# Altium footprint library con-phoenix-508.PCBLIB: 90 footprints (part 2 of 6)
Each footprint in its own frame and in the unit in brackets; x right, y up, seen from the top. Pads: shape width x height; smd on the part's side, far side on the other; paste and mask are expansions set on the pad; w line width, h text height; cw(c..) or ccw(c..) is an arc to the next point about the centre after c.
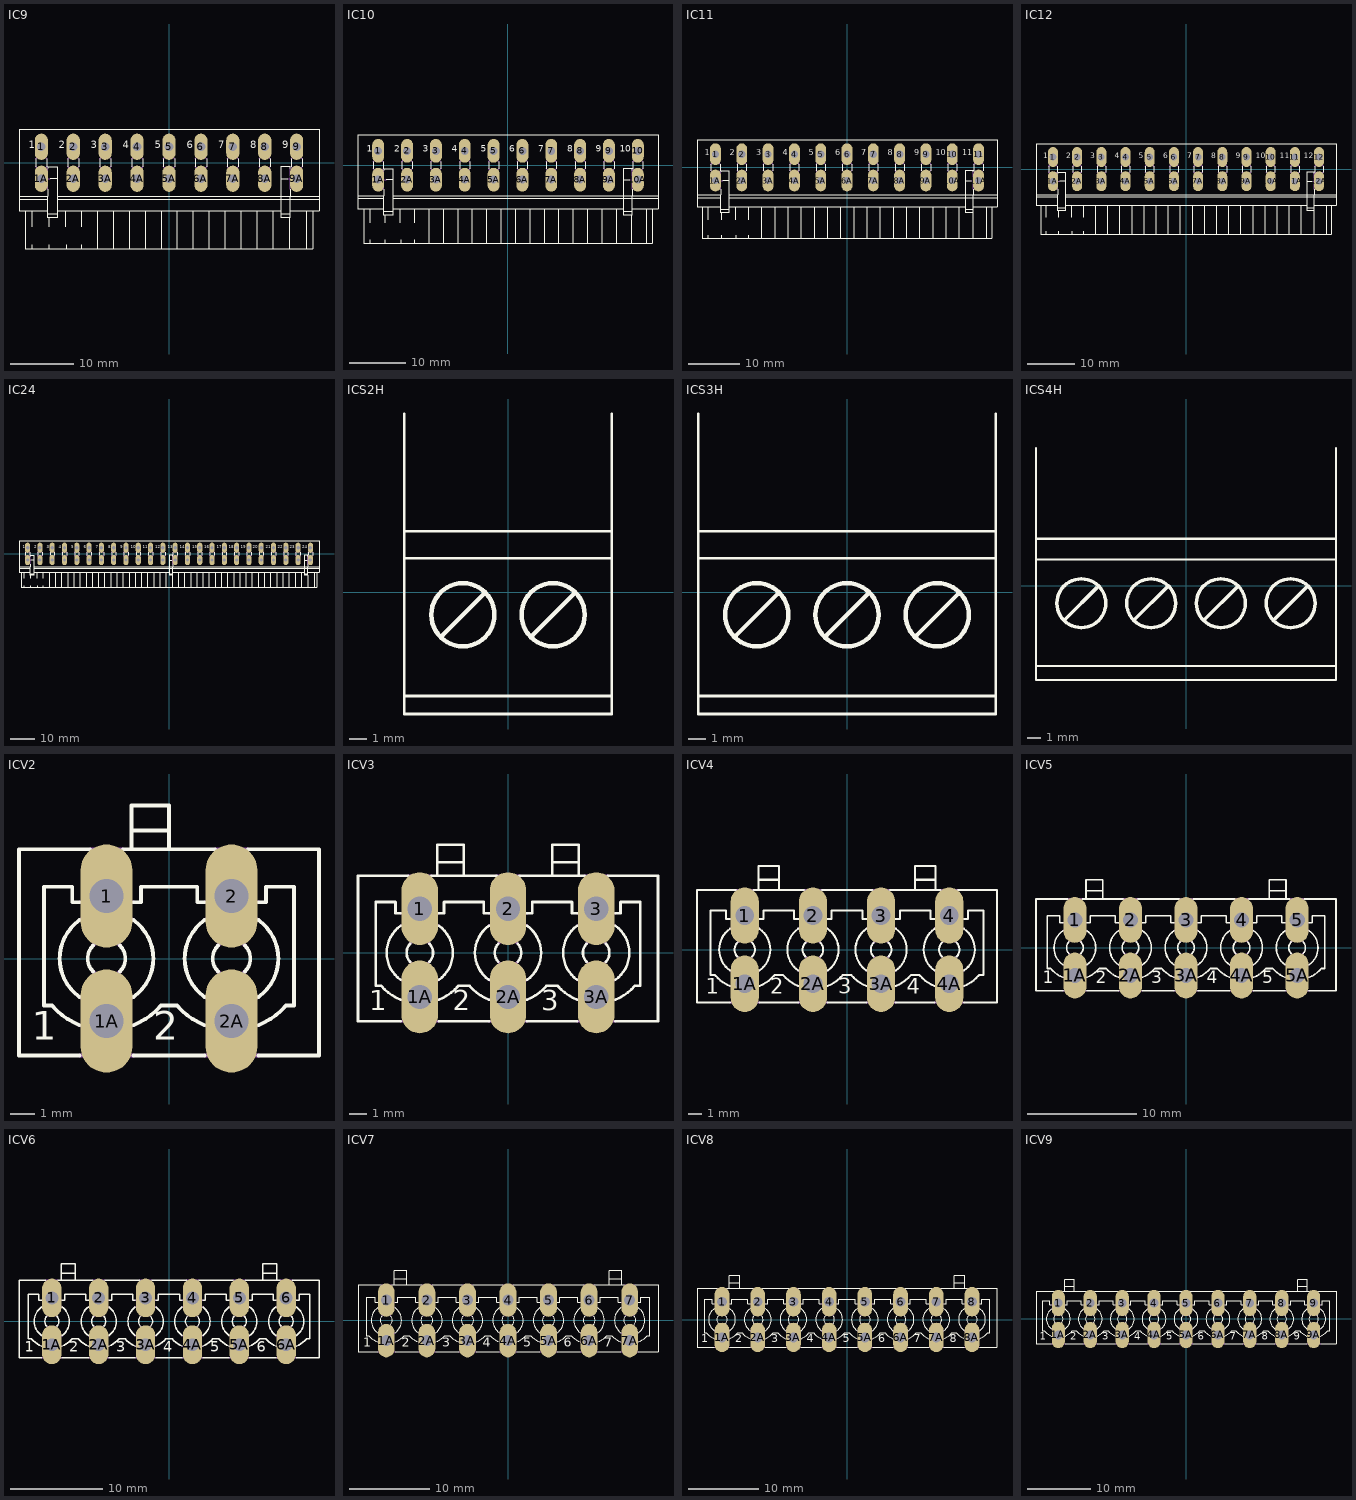
[diagram p1: the footprints below, top view; thin cyan lines are the x and y axes]

## IC9 [mil]
pads (18):
  oval 82.5x165 hole 55: 1(-800,100) 1A(-800,-100) 2(-600,100) 2A(-600,-100) 3(-400,100) 3A(-400,-100) 4(-200,100) 4A(-200,-100) 5(0,100) 5A(0,-100) 6(200,100) 6A(200,-100) 7(400,100) 7A(400,-100) 8(600,100) 8A(600,-100) 9(800,100) 9A(800,-100)
Top Overlay:
  lines w6: -860,-515 -860,-540 ; -860,-400 -860,-300 ; -835,-25 -835,25 ; -765,-25 -765,25 ; -760,-165 -760,-210 ; -760,-35 -760,-25 -700,-25 -700,-100 ; -755,-515 -755,-540 ; -755,-400 -755,-345 ; -745,-100 -700,-100 ; -650,-400 -650,-300 ; -645,-515 -645,-540 ; -635,-25 -635,25 ; -565,-25 -565,25 ; -550,-515 -550,-540 ; -550,-400 -550,-300 ; -435,-25 -435,25 ; -365,-25 -365,25 ; -235,-25 -235,25 ; -165,-25 -165,25 ; -35,-25 -35,25 ; 35,-25 35,25 ; 165,-25 165,25 ; 235,-25 235,25 ; 365,-25 365,25 ; 435,-25 435,25 ; 565,-25 565,25 ; 635,-25 635,25 ; 745,-100 700,-100 ; 760,-165 760,-210 ; 760,-35 760,-25 700,-25 700,-100 ; 765,-25 765,25 ; 835,-25 835,25 ; -940,-230 -940,-210 ; -940,-230 -760,-230 ; -940,-230 -940,-300 -900,-300 ; -940,-210 -940,211 940,211 940,-210 ; -940,-210 -760,-210 ; -900,-300 -860,-300 ; -900,-300 -900,-540 -860,-540 ; -860,-540 -755,-540 ; -860,-300 -760,-300 ; -760,-320 -760,-345 -755,-345 ; -760,-320 -700,-320 ; -760,-320 -760,-300 ; -760,-300 -760,-230 ; -760,-230 -760,-210 ; -755,-540 -645,-540 ; -755,-345 -700,-345 -700,-320 ; -700,-320 -700,-300 ; -700,-300 -700,-230 ; -700,-300 -650,-300 ; -700,-230 -700,-210 ; -700,-230 700,-230 ; -700,-210 -700,-100 ; -700,-210 700,-210 ; -650,-300 -550,-300 ; -645,-540 -550,-540 ; -550,-540 -450,-540 ; -550,-300 -450,-300 ; -450,-540 -350,-540 ; -450,-540 -450,-300 ; -450,-300 -350,-300 ; -350,-540 -250,-540 ; -350,-540 -350,-300 ; -350,-300 -250,-300 ; -250,-540 -150,-540 ; -250,-540 -250,-300 ; -250,-300 -150,-300 ; -150,-540 -50,-540 ; -150,-540 -150,-300 ; -150,-300 -50,-300 ; -50,-540 50,-540 ; -50,-540 -50,-300 ; -50,-300 50,-300 ; 50,-540 150,-540 ; 50,-540 50,-300 ; 50,-300 150,-300 ; 150,-540 250,-540 ; 150,-540 150,-300 ; 150,-300 250,-300 ; 250,-540 350,-540 ; 250,-540 250,-300 ; 250,-300 350,-300 ; 350,-540 450,-540 ; 350,-540 350,-300 ; 350,-300 450,-300 ; 450,-540 550,-540 ; 450,-540 450,-300 ; 450,-300 550,-300 ; 550,-540 650,-540 ; 550,-540 550,-300 ; 550,-300 650,-300 ; 650,-540 755,-540 ; 650,-540 650,-300 ; 650,-300 700,-300 ; 700,-320 700,-300 ; 700,-320 760,-320 ; 700,-320 700,-345 755,-345 ; 700,-300 700,-230 ; 700,-230 760,-230 ; 700,-230 700,-210 ; 700,-210 760,-210 ; 700,-210 700,-100 ; 755,-540 860,-540 ; 755,-540 755,-345 ; 755,-345 760,-345 760,-320 ; 760,-320 760,-300 ; 760,-300 860,-300 ; 760,-300 760,-230 ; 760,-230 940,-230 ; 760,-230 760,-210 ; 760,-210 940,-210 ; 860,-540 900,-540 900,-300 ; 860,-540 860,-300 ; 860,-300 900,-300 ; 900,-300 940,-300 940,-230 ; 940,-230 940,-210
  text "3" at -490,75 h77.5
  text "1" at -880,75 h77.5
  text "2" at -690,75 h77.5
  text "4" at -290,75 h77.5
  text "5" at -90,75 h77.5
  text "6" at 110,75 h77.5
  text "7" at 310,75 h77.5
  text "8" at 510,75 h77.5
  text "9" at 710,75 h77.5
Mechanical 16:
  lines w6: -835,-25 -825,-35 -775,-35 -765,-25 ; -835,25 -825,35 -775,35 -765,25 ; -760,-165 -760,-100 ; -760,-35 -760,-100 ; -745,-100 -760,-100 ; -635,-25 -625,-35 -575,-35 -565,-25 ; -635,25 -625,35 -575,35 -565,25 ; -435,-25 -425,-35 -375,-35 -365,-25 ; -435,25 -425,35 -375,35 -365,25 ; -235,-25 -225,-35 -175,-35 -165,-25 ; -235,25 -225,35 -175,35 -165,25 ; -35,-25 -25,-35 25,-35 35,-25 ; -35,25 -25,35 25,35 35,25 ; 165,-25 175,-35 225,-35 235,-25 ; 165,25 175,35 225,35 235,25 ; 365,-25 375,-35 425,-35 435,-25 ; 365,25 375,35 425,35 435,25 ; 565,-25 575,-35 625,-35 635,-25 ; 565,25 575,35 625,35 635,25 ; 745,-100 760,-100 ; 760,-165 760,-100 ; 760,-35 760,-100 ; 765,-25 775,-35 825,-35 835,-25 ; 765,25 775,35 825,35 835,25

## IC10 [mil]
pads (20):
  oval 82.5x165 hole 55: 1(-900,100) 1A(-900,-100) 2(-700,100) 2A(-700,-100) 3(-500,100) 3A(-500,-100) 4(-300,100) 4A(-300,-100) 5(-100,100) 5A(-100,-100) 6(100,100) 6A(100,-100) 7(300,100) 7A(300,-100) 8(500,100) 8A(500,-100) 9(700,100) 9A(700,-100) 10(900,100) 10A(900,-100)
Top Overlay:
  lines w6: -960,-515 -960,-540 ; -960,-400 -960,-300 ; -935,-25 -935,25 ; -865,-25 -865,25 ; -860,-165 -860,-210 ; -860,-35 -860,-25 -800,-25 -800,-100 ; -855,-515 -855,-540 ; -855,-400 -855,-345 ; -845,-100 -800,-100 ; -750,-400 -750,-300 ; -745,-515 -745,-540 ; -735,-25 -735,25 ; -665,-25 -665,25 ; -650,-515 -650,-540 ; -650,-400 -650,-300 ; -535,-25 -535,25 ; -465,-25 -465,25 ; -335,-25 -335,25 ; -265,-25 -265,25 ; -135,-25 -135,25 ; -65,-25 -65,25 ; 65,-25 65,25 ; 135,-25 135,25 ; 265,-25 265,25 ; 335,-25 335,25 ; 465,-25 465,25 ; 535,-25 535,25 ; 665,-25 665,25 ; 735,-25 735,25 ; 845,-100 800,-100 ; 860,-165 860,-210 ; 860,-35 860,-25 800,-25 800,-100 ; 865,-25 865,25 ; 935,-25 935,25 ; -1040,-230 -1040,-210 ; -1040,-230 -860,-230 ; -1040,-230 -1040,-300 -1000,-300 ; -1040,-210 -1040,211 1040,211 1040,-210 ; -1040,-210 -860,-210 ; -1000,-300 -960,-300 ; -1000,-300 -1000,-540 -960,-540 ; -960,-540 -855,-540 ; -960,-300 -860,-300 ; -860,-320 -860,-345 -855,-345 ; -860,-320 -800,-320 ; -860,-320 -860,-300 ; -860,-300 -860,-230 ; -860,-230 -860,-210 ; -855,-540 -745,-540 ; -855,-345 -800,-345 -800,-320 ; -800,-320 -800,-300 ; -800,-300 -800,-230 ; -800,-300 -750,-300 ; -800,-230 -800,-210 ; -800,-230 800,-230 ; -800,-210 -800,-100 ; -800,-210 800,-210 ; -750,-300 -650,-300 ; -745,-540 -650,-540 ; -650,-540 -550,-540 ; -650,-300 -550,-300 ; -550,-540 -450,-540 ; -550,-540 -550,-300 ; -550,-300 -450,-300 ; -450,-540 -350,-540 ; -450,-540 -450,-300 ; -450,-300 -350,-300 ; -350,-540 -250,-540 ; -350,-540 -350,-300 ; -350,-300 -250,-300 ; -250,-540 -150,-540 ; -250,-540 -250,-300 ; -250,-300 -150,-300 ; -150,-540 -50,-540 ; -150,-540 -150,-300 ; -150,-300 -50,-300 ; -50,-540 50,-540 ; -50,-540 -50,-300 ; -50,-300 50,-300 ; 50,-540 150,-540 ; 50,-540 50,-300 ; 50,-300 150,-300 ; 150,-540 250,-540 ; 150,-540 150,-300 ; 150,-300 250,-300 ; 250,-540 350,-540 ; 250,-540 250,-300 ; 250,-300 350,-300 ; 350,-540 450,-540 ; 350,-540 350,-300 ; 350,-300 450,-300 ; 450,-540 550,-540 ; 450,-540 450,-300 ; 450,-300 550,-300 ; 550,-540 650,-540 ; 550,-540 550,-300 ; 550,-300 650,-300 ; 650,-540 750,-540 ; 650,-540 650,-300 ; 650,-300 750,-300 ; 750,-540 855,-540 ; 750,-540 750,-300 ; 750,-300 800,-300 ; 800,-320 800,-300 ; 800,-320 860,-320 ; 800,-320 800,-345 855,-345 ; 800,-300 800,-230 ; 800,-230 860,-230 ; 800,-230 800,-210 ; 800,-210 860,-210 ; 800,-210 800,-100 ; 855,-540 960,-540 ; 855,-540 855,-345 ; 855,-345 860,-345 860,-320 ; 860,-320 860,-300 ; 860,-300 960,-300 ; 860,-300 860,-230 ; 860,-230 1040,-230 ; 860,-230 860,-210 ; 860,-210 1040,-210 ; 960,-540 1000,-540 1000,-300 ; 960,-540 960,-300 ; 960,-300 1000,-300 ; 1000,-300 1040,-300 1040,-230 ; 1040,-230 1040,-210
  text "3" at -590,75 h77.5
  text "1" at -980,75 h77.5
  text "2" at -790,75 h77.5
  text "4" at -390,75 h77.5
  text "5" at -190,75 h77.5
  text "6" at 10,75 h77.5
  text "7" at 210,75 h77.5
  text "8" at 410,75 h77.5
  text "9" at 610,75 h77.5
  text "10" at 775,75 h77.5
Mechanical 16:
  lines w6: -935,-25 -925,-35 -875,-35 -865,-25 ; -935,25 -925,35 -875,35 -865,25 ; -860,-165 -860,-100 ; -860,-35 -860,-100 ; -845,-100 -860,-100 ; -735,-25 -725,-35 -675,-35 -665,-25 ; -735,25 -725,35 -675,35 -665,25 ; -535,-25 -525,-35 -475,-35 -465,-25 ; -535,25 -525,35 -475,35 -465,25 ; -335,-25 -325,-35 -275,-35 -265,-25 ; -335,25 -325,35 -275,35 -265,25 ; -135,-25 -125,-35 -75,-35 -65,-25 ; -135,25 -125,35 -75,35 -65,25 ; 65,-25 75,-35 125,-35 135,-25 ; 65,25 75,35 125,35 135,25 ; 265,-25 275,-35 325,-35 335,-25 ; 265,25 275,35 325,35 335,25 ; 465,-25 475,-35 525,-35 535,-25 ; 465,25 475,35 525,35 535,25 ; 665,-25 675,-35 725,-35 735,-25 ; 665,25 675,35 725,35 735,25 ; 845,-100 860,-100 ; 860,-165 860,-100 ; 860,-35 860,-100 ; 865,-25 875,-35 925,-35 935,-25 ; 865,25 875,35 925,35 935,25

## IC11 [mil]
pads (22):
  oval 82.5x165 hole 55: 1(-1000,100) 1A(-1000,-100) 2(-800,100) 2A(-800,-100) 3(-600,100) 3A(-600,-100) 4(-400,100) 4A(-400,-100) 5(-200,100) 5A(-200,-100) 6(0,100) 6A(0,-100) 7(200,100) 7A(200,-100) 8(400,100) 8A(400,-100) 9(600,100) 9A(600,-100) 10(800,100) 10A(800,-100) 11(1000,100) 11A(1000,-100)
Top Overlay:
  lines w6: -1060,-515 -1060,-540 ; -1060,-400 -1060,-300 ; -1035,-25 -1035,25 ; -965,-25 -965,25 ; -960,-165 -960,-210 ; -960,-35 -960,-25 -900,-25 -900,-100 ; -955,-515 -955,-540 ; -955,-400 -955,-345 ; -945,-100 -900,-100 ; -850,-400 -850,-300 ; -845,-515 -845,-540 ; -835,-25 -835,25 ; -765,-25 -765,25 ; -750,-515 -750,-540 ; -750,-400 -750,-300 ; -635,-25 -635,25 ; -565,-25 -565,25 ; -435,-25 -435,25 ; -365,-25 -365,25 ; -235,-25 -235,25 ; -165,-25 -165,25 ; -35,-25 -35,25 ; 35,-25 35,25 ; 165,-25 165,25 ; 235,-25 235,25 ; 365,-25 365,25 ; 435,-25 435,25 ; 565,-25 565,25 ; 635,-25 635,25 ; 765,-25 765,25 ; 835,-25 835,25 ; 945,-100 900,-100 ; 960,-165 960,-210 ; 960,-35 960,-25 900,-25 900,-100 ; 965,-25 965,25 ; 1035,-25 1035,25 ; -1140,-230 -1140,-210 ; -1140,-230 -960,-230 ; -1140,-230 -1140,-300 -1100,-300 ; -1140,-210 -1140,211 1140,211 1140,-210 ; -1140,-210 -960,-210 ; -1100,-300 -1060,-300 ; -1100,-300 -1100,-540 -1060,-540 ; -1060,-540 -955,-540 ; -1060,-300 -960,-300 ; -960,-320 -960,-345 -955,-345 ; -960,-320 -900,-320 ; -960,-320 -960,-300 ; -960,-300 -960,-230 ; -960,-230 -960,-210 ; -955,-540 -845,-540 ; -955,-345 -900,-345 -900,-320 ; -900,-320 -900,-300 ; -900,-300 -900,-230 ; -900,-300 -850,-300 ; -900,-230 -900,-210 ; -900,-230 900,-230 ; -900,-210 -900,-100 ; -900,-210 900,-210 ; -850,-300 -750,-300 ; -845,-540 -750,-540 ; -750,-540 -650,-540 ; -750,-300 -650,-300 ; -650,-540 -550,-540 ; -650,-540 -650,-300 ; -650,-300 -550,-300 ; -550,-540 -450,-540 ; -550,-540 -550,-300 ; -550,-300 -450,-300 ; -450,-540 -350,-540 ; -450,-540 -450,-300 ; -450,-300 -350,-300 ; -350,-540 -250,-540 ; -350,-540 -350,-300 ; -350,-300 -250,-300 ; -250,-540 -150,-540 ; -250,-540 -250,-300 ; -250,-300 -150,-300 ; -150,-540 -50,-540 ; -150,-540 -150,-300 ; -150,-300 -50,-300 ; -50,-540 50,-540 ; -50,-540 -50,-300 ; -50,-300 50,-300 ; 50,-540 150,-540 ; 50,-540 50,-300 ; 50,-300 150,-300 ; 150,-540 250,-540 ; 150,-540 150,-300 ; 150,-300 250,-300 ; 250,-540 350,-540 ; 250,-540 250,-300 ; 250,-300 350,-300 ; 350,-540 450,-540 ; 350,-540 350,-300 ; 350,-300 450,-300 ; 450,-540 550,-540 ; 450,-540 450,-300 ; 450,-300 550,-300 ; 550,-540 650,-540 ; 550,-540 550,-300 ; 550,-300 650,-300 ; 650,-540 750,-540 ; 650,-540 650,-300 ; 650,-300 750,-300 ; 750,-540 850,-540 ; 750,-540 750,-300 ; 750,-300 850,-300 ; 850,-540 955,-540 ; 850,-540 850,-300 ; 850,-300 900,-300 ; 900,-320 900,-300 ; 900,-320 960,-320 ; 900,-320 900,-345 955,-345 ; 900,-300 900,-230 ; 900,-230 960,-230 ; 900,-230 900,-210 ; 900,-210 960,-210 ; 900,-210 900,-100 ; 955,-540 1060,-540 ; 955,-540 955,-345 ; 955,-345 960,-345 960,-320 ; 960,-320 960,-300 ; 960,-300 1060,-300 ; 960,-300 960,-230 ; 960,-230 1140,-230 ; 960,-230 960,-210 ; 960,-210 1140,-210 ; 1060,-540 1100,-540 1100,-300 ; 1060,-540 1060,-300 ; 1060,-300 1100,-300 ; 1100,-300 1140,-300 1140,-230 ; 1140,-230 1140,-210
  text "3" at -690,75 h77.5
  text "1" at -1080,75 h77.5
  text "2" at -890,75 h77.5
  text "4" at -490,75 h77.5
  text "5" at -290,75 h77.5
  text "6" at -90,75 h77.5
  text "7" at 110,75 h77.5
  text "8" at 310,75 h77.5
  text "9" at 510,75 h77.5
  text "10" at 675,75 h77.5
  text "11" at 875,75 h77.5
Mechanical 16:
  lines w6: -1035,-25 -1025,-35 -975,-35 -965,-25 ; -1035,25 -1025,35 -975,35 -965,25 ; -960,-165 -960,-100 ; -960,-35 -960,-100 ; -945,-100 -960,-100 ; -835,-25 -825,-35 -775,-35 -765,-25 ; -835,25 -825,35 -775,35 -765,25 ; -635,-25 -625,-35 -575,-35 -565,-25 ; -635,25 -625,35 -575,35 -565,25 ; -435,-25 -425,-35 -375,-35 -365,-25 ; -435,25 -425,35 -375,35 -365,25 ; -235,-25 -225,-35 -175,-35 -165,-25 ; -235,25 -225,35 -175,35 -165,25 ; -35,-25 -25,-35 25,-35 35,-25 ; -35,25 -25,35 25,35 35,25 ; 165,-25 175,-35 225,-35 235,-25 ; 165,25 175,35 225,35 235,25 ; 365,-25 375,-35 425,-35 435,-25 ; 365,25 375,35 425,35 435,25 ; 565,-25 575,-35 625,-35 635,-25 ; 565,25 575,35 625,35 635,25 ; 765,-25 775,-35 825,-35 835,-25 ; 765,25 775,35 825,35 835,25 ; 945,-100 960,-100 ; 960,-165 960,-100 ; 960,-35 960,-100 ; 965,-25 975,-35 1025,-35 1035,-25 ; 965,25 975,35 1025,35 1035,25

## IC12 [mil]
pads (24):
  oval 82.5x165 hole 55: 1(-1100,100) 1A(-1100,-100) 2(-900,100) 2A(-900,-100) 3(-700,100) 3A(-700,-100) 4(-500,100) 4A(-500,-100) 5(-300,100) 5A(-300,-100) 6(-100,100) 6A(-100,-100) 7(100,100) 7A(100,-100) 8(300,100) 8A(300,-100) 9(500,100) 9A(500,-100) 10(700,100) 10A(700,-100) 11(900,100) 11A(900,-100) 12(1100,100) 12A(1100,-100)
Top Overlay:
  drawing of 155 lines, arcs and shapes, not listed
  text "3" at -790,75 h77.5
  text "1" at -1180,75 h77.5
  text "2" at -990,75 h77.5
  text "4" at -590,75 h77.5
  text "5" at -390,75 h77.5
  text "6" at -190,75 h77.5
  text "7" at 10,75 h77.5
  text "8" at 210,75 h77.5
  text "9" at 410,75 h77.5
  text "10" at 575,75 h77.5
  text "11" at 775,75 h77.5
  text "12" at 975,75 h77.5
Mechanical 16:
  lines w6: -1135,-25 -1125,-35 -1075,-35 -1065,-25 ; -1135,25 -1125,35 -1075,35 -1065,25 ; -1060,-165 -1060,-100 ; -1060,-35 -1060,-100 ; -1045,-100 -1060,-100 ; -935,-25 -925,-35 -875,-35 -865,-25 ; -935,25 -925,35 -875,35 -865,25 ; -735,-25 -725,-35 -675,-35 -665,-25 ; -735,25 -725,35 -675,35 -665,25 ; -535,-25 -525,-35 -475,-35 -465,-25 ; -535,25 -525,35 -475,35 -465,25 ; -335,-25 -325,-35 -275,-35 -265,-25 ; -335,25 -325,35 -275,35 -265,25 ; -135,-25 -125,-35 -75,-35 -65,-25 ; -135,25 -125,35 -75,35 -65,25 ; 65,-25 75,-35 125,-35 135,-25 ; 65,25 75,35 125,35 135,25 ; 265,-25 275,-35 325,-35 335,-25 ; 265,25 275,35 325,35 335,25 ; 465,-25 475,-35 525,-35 535,-25 ; 465,25 475,35 525,35 535,25 ; 665,-25 675,-35 725,-35 735,-25 ; 665,25 675,35 725,35 735,25 ; 865,-25 875,-35 925,-35 935,-25 ; 865,25 875,35 925,35 935,25 ; 1045,-100 1060,-100 ; 1060,-165 1060,-100 ; 1060,-35 1060,-100 ; 1065,-25 1075,-35 1125,-35 1135,-25 ; 1065,25 1075,35 1125,35 1135,25

## IC24 [mil]
pads (48):
  oval 82.5x165 hole 55: 1(-2300,100) 1A(-2300,-100) 2(-2100,100) 2A(-2100,-100) 3(-1900,100) 3A(-1900,-100) 4(-1700,100) 4A(-1700,-100) 5(-1500,100) 5A(-1500,-100) 6(-1300,100) 6A(-1300,-100) 7(-1100,100) 7A(-1100,-100) 8(-900,100) 8A(-900,-100) 9(-700,100) 9A(-700,-100) 10(-500,100) 10A(-500,-100) 11(-300,100) 11A(-300,-100) 12(-100,100) 12A(-100,-100) 13(100,100) 13A(100,-100) 14(300,100) 14A(300,-100) 15(500,100) 15A(500,-100) 16(700,100) 16A(700,-100) 17(900,100) 17A(900,-100) 18(1100,100) 18A(1100,-100) 19(1300,100) 19A(1300,-100) 20(1500,100) 20A(1500,-100) 21(1700,100) 21A(1700,-100) 22(1900,100) 22A(1900,-100) 23(2100,100) 23A(2100,-100) 24(2300,100) 24A(2300,-100)
Top Overlay:
  drawing of 274 lines, arcs and shapes, not listed
  text "3" at -1990,75 h77.5
  text "1" at -2380,75 h77.5
  text "2" at -2190,75 h77.5
  text "4" at -1790,75 h77.5
  text "5" at -1590,75 h77.5
  text "6" at -1390,75 h77.5
  text "7" at -1190,75 h77.5
  text "8" at -990,75 h77.5
  text "9" at -790,75 h77.5
  text "10" at -625,75 h77.5
  text "11" at -425,75 h77.5
  text "12" at -225,75 h77.5
  text "24" at 2165,75 h77.5
  text "23" at 1965,75 h77.5
  text "22" at 1765,75 h77.5
  text "21" at 1575,75 h77.5
  text "20" at 1365,75 h77.5
  text "19" at 1170,75 h77.5
  text "18" at 970,75 h77.5
  text "17" at 775,75 h77.5
  text "16" at 575,75 h77.5
  text "15" at 375,75 h77.5
  text "13" at -20,75 h77.5
  text "14" at 175,75 h77.5
Mechanical 16:
  drawing of 153 lines, arcs and shapes, not listed

## ICS2H [mil]
Top Overlay:
  circle w10: c100,-50 r70
  circle w10: c-100,-50 r70
  lines w6: -230,395 -230,135 ; 230,395 230,135 ; -230,-230 -230,-270 230,-270 230,-230 ; -230,-230 230,-230 ; -230,-230 -230,75 ; -230,75 -230,135 ; -230,75 230,75 ; -230,135 230,135 ; 230,-230 230,75 ; 230,75 230,135
  lines w10: -145,-95 -55,-5 ; 55,-95 145,-5

## ICS3H [mil]
Top Overlay:
  circle w10: c0,-50 r70
  circle w10: c-200,-50 r70
  circle w10: c200,-50 r70
  lines w6: -330,395 -330,135 ; 330,395 330,135 ; -330,-230 -330,-270 330,-270 330,-230 ; -330,-230 330,-230 ; -330,-230 -330,75 ; -330,75 -330,135 ; -330,75 330,75 ; -330,135 330,135 ; 330,-230 330,75 ; 330,75 330,135
  lines w10: -245,-95 -155,-5 ; -45,-95 45,-5 ; 155,-95 245,-5

## ICS4H [mil]
Top Overlay:
  circle w10: c-100,-50 r70
  circle w10: c-300,-50 r70
  circle w10: c100,-50 r70
  circle w10: c300,-50 r70
  lines w6: -430,395 -430,135 ; 430,395 430,135 ; -430,-230 -430,-270 430,-270 430,-230 ; -430,-230 430,-230 ; -430,-230 -430,75 ; -430,75 -430,135 ; -430,75 430,75 ; -430,135 430,135 ; 430,-230 430,75 ; 430,75 430,135
  lines w10: -345,-95 -255,-5 ; -145,-95 -55,-5 ; 55,-95 145,-5 ; 255,-95 345,-5

## ICV2 [mil]
pads (4):
  oval 82.5x165 hole 55: 1(-100,100) 1A(-100,-100) 2(100,100) 2A(100,-100)
Top Overlay:
  lines w6: -143,-155 -240,-155 -240,175 -125.94,175 ; -142.98,-106.66 cw(c-99.99,0.02) -187.17,-75 -200,-75 -200,115 -155,115 -155,90 -143,90 ; -143,-61.45 cw(c-100,0) -143,61.45 ; -121.71,-20.71 cw(c-100,0) -121.71,20.71 ; -78.29,-20.71 ccw(c-100,0) -78.29,20.71 ; -74,175 -60,175 ; -57,-155 57,-155 ; -57,-106.66 ccw(c-99.99,0.01) -12.81,-75 ; -57,-61.45 ccw(c-100,0) -57,61.45 ; -57,90 -45,90 -45,115 45,115 45,90 57,90 ; -12.83,-75 12.83,-75 ccw(c99.99,0.02) 57.02,-106.65 ; 57,-61.45 cw(c100,0) 57,61.45 ; 74,175 0,175 ; 78.29,-20.71 cw(c100,0) 78.29,20.71 ; 121.71,-20.71 ccw(c100,0) 121.71,20.71 ; 126,175 240,175 240,-155 143,-155 ; 142.98,-106.66 ccw(c99.99,0.02) 187.17,-75 200,-75 200,115 155,115 155,90 143,90 ; 143,-61.45 ccw(c100,0) 143,61.45 ; -60,175 0,175 ; -60,175 -60,205 ; -60,205 -60,245 0,245 0,205 ; -60,205 0,205 ; 0,175 0,205
  text "1" at -220,-145 h77.5
  text "2" at -25,-145 h77.5
Mechanical 16:
  lines w6: -143,-155 -57,-155 ; -143,-106.66 ccw(c-100,0) -57,-106.66 ; -143,-61.45 ccw(c-100,0) -57,-61.45 ; -143,61.45 cw(c-100,0) -57,61.45 ; -143,90 -57,90 ; -126,175 -74,175 ; -121.71,-20.71 ccw(c-100,0) -78.29,-20.71 ; -121.71,20.71 cw(c-100,0) -78.29,20.71 ; 57,-155 143,-155 ; 57,-106.66 ccw(c100,0) 143,-106.66 ; 57,-61.45 ccw(c100,0) 143,-61.45 ; 57,61.45 cw(c100,0) 143,61.45 ; 57,90 143,90 ; 74,175 126,175 ; 78.29,-20.71 ccw(c100,0) 121.71,-20.71 ; 78.29,20.71 cw(c100,0) 121.71,20.71

## ICV3 [mil]
pads (6):
  oval 82.5x165 hole 55: 1(-200,100) 1A(-200,-100) 2(0,100) 2A(0,-100) 3(200,100) 3A(200,-100)
Top Overlay:
  lines w6: -243,-155 -340,-155 -340,175 -226,175 ; -242.98,-106.66 cw(c-199.99,0.02) -287.17,-75 -300,-75 -300,115 -255,115 -255,90 -243,90 ; -243,-61.45 cw(c-200,0) -243,61.45 ; -221.71,-20.71 cw(c-200,0) -221.71,20.71 ; -178.29,-20.71 ccw(c-200,0) -178.29,20.71 ; -174,175 -160,175 ; -157,-155 -43,-155 ; -157,-106.66 ccw(c-199.99,-0.01) -112.82,-75 ; -157,-61.45 ccw(c-200,0) -157,61.45 ; -157,90 -145,90 -145,115 -55,115 -55,90 -43,90 ; -112.83,-75 -87.17,-75 ccw(c0.01,0.02) -42.98,-106.66 ; -43,-61.45 cw(c0,0) -43,61.45 ; -26,175 -100,175 ; -21.71,-20.71 cw(c0,0) -21.71,20.71 ; 21.71,-20.71 ccw(c0,0) 21.71,20.71 ; 26,175 100,175 ; 43,-155 157,-155 ; 42.98,-106.66 ccw(c-0.01,0.02) 87.17,-75 112.83,-75 ccw(c199.99,0.02) 157.02,-106.65 ; 43,-61.45 ccw(c0,0) 43,61.45 ; 43,90 55,90 55,115 145,115 145,90 157,90 ; 157,-61.45 cw(c200,0) 157,61.45 ; 174,175 160,175 ; 178.29,-20.71 cw(c200,0) 178.29,20.71 ; 221.71,-20.71 ccw(c200,0) 221.71,20.71 ; 226,175 340,175 340,-155 243,-155 ; 242.98,-106.66 ccw(c199.99,0.02) 287.17,-75 300,-75 300,115 255,115 255,90 243,90 ; 243,-61.45 ccw(c200,0) 243,61.45 ; -160,175 -100,175 ; -160,175 -160,205 ; -160,205 -160,245 -100,245 -100,205 ; -160,205 -100,205 ; -100,175 -100,205 ; 100,175 160,175 ; 100,175 100,205 ; 100,205 100,245 160,245 160,205 ; 100,205 160,205 ; 160,175 160,205
  text "1" at -315,-145 h77.5
  text "2" at -125,-145 h77.5
  text "3" at 75,-145 h77.5
Mechanical 16:
  lines w6: -243,-155 -157,-155 ; -243,-106.66 ccw(c-200,0) -157,-106.66 ; -243,-61.45 ccw(c-200,0) -157,-61.45 ; -243,61.45 cw(c-200,0) -157,61.45 ; -243,90 -157,90 ; -226,175 -174,175 ; -221.71,-20.71 ccw(c-200,0) -178.29,-20.71 ; -221.71,20.71 cw(c-200,0) -178.29,20.71 ; -43,-155 43,-155 ; -43,-106.66 ccw(c0,0) 43,-106.66 ; -43,-61.45 ccw(c0,0) 43,-61.45 ; -43,61.45 cw(c0,0) 43,61.45 ; -43,90 43,90 ; -26,175 26,175 ; -21.71,-20.71 ccw(c0,0) 21.71,-20.71 ; -21.71,20.71 cw(c0,0) 21.71,20.71 ; 157,-155 243,-155 ; 157,-106.66 ccw(c200,0) 243,-106.66 ; 157,-61.45 ccw(c200,0) 243,-61.45 ; 157,61.45 cw(c200,0) 243,61.45 ; 157,90 243,90 ; 174,175 226,175 ; 178.29,-20.71 ccw(c200,0) 221.71,-20.71 ; 178.29,20.71 cw(c200,0) 221.71,20.71

## ICV4 [mil]
pads (8):
  oval 82.5x165 hole 55: 1(-300,100) 1A(-300,-100) 2(-100,100) 2A(-100,-100) 3(100,100) 3A(100,-100) 4(300,100) 4A(300,-100)
Top Overlay:
  lines w6: -343,-155 -440,-155 -440,175 -326,175 ; -342.98,-106.66 cw(c-299.99,0.02) -387.17,-75 -400,-75 -400,115 -355,115 -355,90 -343,90 ; -343,-61.45 cw(c-300,0) -343,61.45 ; -321.71,-20.71 cw(c-300,0) -321.71,20.71 ; -278.29,-20.71 ccw(c-300,0) -278.29,20.71 ; -274,175 -260,175 ; -257,-155 -143,-155 ; -257,-106.66 ccw(c-299.99,-0.01) -212.82,-75 ; -257,-61.45 ccw(c-300,0) -257,61.45 ; -257,90 -245,90 -245,115 -155,115 -155,90 -143,90 ; -212.83,-75 -187.17,-75 ccw(c-99.99,0.02) -142.98,-106.66 ; -143,-61.45 cw(c-100,0) -143,61.45 ; -126,175 -200,175 ; -121.71,-20.71 cw(c-100,0) -121.71,20.71 ; -78.29,-20.71 ccw(c-100,0) -78.29,20.71 ; -74,175 75,175 ; -57,-155 57,-155 ; -57,-106.66 ccw(c-99.99,0.01) -12.81,-75 ; -57,-61.45 ccw(c-100,0) -57,61.45 ; -57,90 -45,90 -45,115 45,115 45,90 57,90 ; -12.83,-75 12.83,-75 ccw(c99.99,0.02) 57.02,-106.65 ; 57,-61.45 cw(c100,0) 57,61.45 ; 78.29,-20.71 cw(c100,0) 78.29,20.71 ; 121.71,-20.71 ccw(c100,0) 121.71,20.71 ; 126,175 200,175 ; 143,-155 257,-155 ; 142.98,-106.66 ccw(c99.99,0.02) 187.17,-75 212.83,-75 ccw(c299.99,0.02) 257.02,-106.65 ; 143,-61.45 ccw(c100,0) 143,61.45 ; 143,90 155,90 155,115 245,115 245,90 257,90 ; 257,-61.45 cw(c300,0) 257,61.45 ; 274,175 260,175 ; 278.29,-20.71 cw(c300,0) 278.29,20.71 ; 321.71,-20.71 ccw(c300,0) 321.71,20.71 ; 326,175 440,175 440,-155 343,-155 ; 342.98,-106.66 ccw(c299.99,0.02) 387.17,-75 400,-75 400,115 355,115 355,90 343,90 ; 343,-61.45 ccw(c300,0) 343,61.45 ; -260,175 -200,175 ; -260,175 -260,205 ; -260,205 -260,245 -200,245 -200,205 ; -260,205 -200,205 ; -200,175 -200,205 ; 200,175 260,175 ; 200,175 200,205 ; 200,205 200,245 260,245 260,205 ; 200,205 260,205 ; 260,175 260,205
  text "1" at -415,-145 h77.5
  text "2" at -225,-145 h77.5
  text "3" at -25,-145 h77.5
  text "4" at 175,-145 h77.5
Mechanical 16:
  lines w6: -343,-155 -257,-155 ; -343,-106.66 ccw(c-300,0) -257,-106.66 ; -343,-61.45 ccw(c-300,0) -257,-61.45 ; -343,61.45 cw(c-300,0) -257,61.45 ; -343,90 -257,90 ; -326,175 -274,175 ; -321.71,-20.71 ccw(c-300,0) -278.29,-20.71 ; -321.71,20.71 cw(c-300,0) -278.29,20.71 ; -143,-155 -57,-155 ; -143,-106.66 ccw(c-100,0) -57,-106.66 ; -143,-61.45 ccw(c-100,0) -57,-61.45 ; -143,61.45 cw(c-100,0) -57,61.45 ; -143,90 -57,90 ; -126,175 -74,175 ; -121.71,-20.71 ccw(c-100,0) -78.29,-20.71 ; -121.71,20.71 cw(c-100,0) -78.29,20.71 ; 57,-155 143,-155 ; 57,-106.66 ccw(c100,0) 143,-106.66 ; 57,-61.45 ccw(c100,0) 143,-61.45 ; 57,61.45 cw(c100,0) 143,61.45 ; 57,90 143,90 ; 74,175 126,175 ; 78.29,-20.71 ccw(c100,0) 121.71,-20.71 ; 78.29,20.71 cw(c100,0) 121.71,20.71 ; 257,-155 343,-155 ; 257,-106.66 ccw(c300,0) 343,-106.66 ; 257,-61.45 ccw(c300,0) 343,-61.45 ; 257,61.45 cw(c300,0) 343,61.45 ; 257,90 343,90 ; 274,175 326,175 ; 278.29,-20.71 ccw(c300,0) 321.71,-20.71 ; 278.29,20.71 cw(c300,0) 321.71,20.71

## ICV5 [mil]
pads (10):
  oval 82.5x165 hole 55: 1(-400,100) 1A(-400,-100) 2(-200,100) 2A(-200,-100) 3(0,100) 3A(0,-100) 4(200,100) 4A(200,-100) 5(400,100) 5A(400,-100)
Top Overlay:
  lines w6: -443,-155 -540,-155 -540,175 -426,175 ; -442.98,-106.66 cw(c-399.99,0.02) -487.17,-75 -500,-75 -500,115 -455,115 -455,90 -443,90 ; -443,-61.45 cw(c-400,0) -443,61.45 ; -421.71,-20.71 cw(c-400,0) -421.71,20.71 ; -378.29,-20.71 ccw(c-400,0) -378.29,20.71 ; -374,175 -360,175 ; -357,-155 -243,-155 ; -357,-106.66 ccw(c-399.99,-0.01) -312.82,-75 ; -357,-61.45 ccw(c-400,0) -357,61.45 ; -357,90 -345,90 -345,115 -255,115 -255,90 -243,90 ; -312.83,-75 -287.17,-75 ccw(c-199.99,0.02) -242.98,-106.66 ; -243,-61.45 cw(c-200,0) -243,61.45 ; -226,175 -300,175 ; -221.71,-20.71 cw(c-200,0) -221.71,20.71 ; -178.29,-20.71 ccw(c-200,0) -178.29,20.71 ; -174,175 -25,175 ; -157,-155 -43,-155 ; -157,-106.66 ccw(c-199.99,-0.01) -112.82,-75 ; -157,-61.45 ccw(c-200,0) -157,61.45 ; -157,90 -145,90 -145,115 -55,115 -55,90 -43,90 ; -112.83,-75 -87.17,-75 ccw(c0.01,0.02) -42.98,-106.66 ; -43,-61.45 cw(c0,0) -43,61.45 ; -21.71,-20.71 cw(c0,0) -21.71,20.71 ; 21.71,-20.71 ccw(c0,0) 21.71,20.71 ; 26,175 175,175 ; 43,-155 157,-155 ; 42.98,-106.66 ccw(c-0.01,0.02) 87.17,-75 112.83,-75 ccw(c199.99,0.02) 157.02,-106.65 ; 43,-61.45 ccw(c0,0) 43,61.45 ; 43,90 55,90 55,115 145,115 145,90 157,90 ; 157,-61.45 cw(c200,0) 157,61.45 ; 178.29,-20.71 cw(c200,0) 178.29,20.71 ; 221.71,-20.71 ccw(c200,0) 221.71,20.71 ; 226,175 300,175 ; 243,-155 357,-155 ; 242.98,-106.66 ccw(c199.99,0.02) 287.17,-75 312.83,-75 ccw(c399.99,0.02) 357.02,-106.65 ; 243,-61.45 ccw(c200,0) 243,61.45 ; 243,90 255,90 255,115 345,115 345,90 357,90 ; 357,-61.45 cw(c400,0) 357,61.45 ; 374,175 360,175 ; 378.29,-20.71 cw(c400,0) 378.29,20.71 ; 421.71,-20.71 ccw(c400,0) 421.71,20.71 ; 426,175 540,175 540,-155 443,-155 ; 442.98,-106.66 ccw(c399.99,0.02) 487.17,-75 500,-75 500,115 455,115 455,90 443,90 ; 443,-61.45 ccw(c400,0) 443,61.45 ; -360,175 -300,175 ; -360,175 -360,205 ; -360,205 -360,245 -300,245 -300,205 ; -360,205 -300,205 ; -300,175 -300,205 ; 300,175 360,175 ; 300,175 300,205 ; 300,205 300,245 360,245 360,205 ; 300,205 360,205 ; 360,175 360,205
  text "1" at -515,-145 h77.5
  text "2" at -325,-145 h77.5
  text "3" at -125,-145 h77.5
  text "4" at 75,-145 h77.5
  text "5" at 275,-145 h77.5
Mechanical 16:
  lines w6: -443,-155 -357,-155 ; -443,-106.66 ccw(c-400,0) -357,-106.66 ; -443,-61.45 ccw(c-400,0) -357,-61.45 ; -443,61.45 cw(c-400,0) -357,61.45 ; -443,90 -357,90 ; -426,175 -374,175 ; -421.71,-20.71 ccw(c-400,0) -378.29,-20.71 ; -421.71,20.71 cw(c-400,0) -378.29,20.71 ; -243,-155 -157,-155 ; -243,-106.66 ccw(c-200,0) -157,-106.66 ; -243,-61.45 ccw(c-200,0) -157,-61.45 ; -243,61.45 cw(c-200,0) -157,61.45 ; -243,90 -157,90 ; -226,175 -174,175 ; -221.71,-20.71 ccw(c-200,0) -178.29,-20.71 ; -221.71,20.71 cw(c-200,0) -178.29,20.71 ; -43,-155 43,-155 ; -43,-106.66 ccw(c0,0) 43,-106.66 ; -43,-61.45 ccw(c0,0) 43,-61.45 ; -43,61.45 cw(c0,0) 43,61.45 ; -43,90 43,90 ; -26,175 26,175 ; -21.71,-20.71 ccw(c0,0) 21.71,-20.71 ; -21.71,20.71 cw(c0,0) 21.71,20.71 ; 157,-155 243,-155 ; 157,-106.66 ccw(c200,0) 243,-106.66 ; 157,-61.45 ccw(c200,0) 243,-61.45 ; 157,61.45 cw(c200,0) 243,61.45 ; 157,90 243,90 ; 174,175 226,175 ; 178.29,-20.71 ccw(c200,0) 221.71,-20.71 ; 178.29,20.71 cw(c200,0) 221.71,20.71 ; 357,-155 443,-155 ; 357,-106.66 ccw(c400,0) 443,-106.66 ; 357,-61.45 ccw(c400,0) 443,-61.45 ; 357,61.45 cw(c400,0) 443,61.45 ; 357,90 443,90 ; 374,175 426,175 ; 378.29,-20.71 ccw(c400,0) 421.71,-20.71 ; 378.29,20.71 cw(c400,0) 421.71,20.71

## ICV6 [mil]
pads (12):
  oval 82.5x165 hole 55: 1(-500,100) 1A(-500,-100) 2(-300,100) 2A(-300,-100) 3(-100,100) 3A(-100,-100) 4(100,100) 4A(100,-100) 5(300,100) 5A(300,-100) 6(500,100) 6A(500,-100)
Top Overlay:
  lines w6: -543,-155 -640,-155 -640,175 -526,175 ; -542.98,-106.66 cw(c-499.99,0.02) -587.17,-75 -600,-75 -600,115 -555,115 -555,90 -543,90 ; -543,-61.45 cw(c-500,0) -543,61.45 ; -521.71,-20.71 cw(c-500,0) -521.71,20.71 ; -478.29,-20.71 ccw(c-500,0) -478.29,20.71 ; -474,175 -460,175 ; -457,-155 -343,-155 ; -457,-106.66 ccw(c-499.99,-0.01) -412.82,-75 ; -457,-61.45 ccw(c-500,0) -457,61.45 ; -457,90 -445,90 -445,115 -355,115 -355,90 -343,90 ; -412.83,-75 -387.17,-75 ccw(c-299.99,0.02) -342.98,-106.66 ; -343,-61.45 cw(c-300,0) -343,61.45 ; -326,175 -400,175 ; -321.71,-20.71 cw(c-300,0) -321.71,20.71 ; -278.29,-20.71 ccw(c-300,0) -278.29,20.71 ; -274,175 -125,175 ; -257,-155 -143,-155 ; -257,-106.66 ccw(c-299.99,-0.01) -212.82,-75 ; -257,-61.45 ccw(c-300,0) -257,61.45 ; -257,90 -245,90 -245,115 -155,115 -155,90 -143,90 ; -212.83,-75 -187.17,-75 ccw(c-99.99,0.02) -142.98,-106.66 ; -143,-61.45 cw(c-100,0) -143,61.45 ; -121.71,-20.71 cw(c-100,0) -121.71,20.71 ; -78.29,-20.71 ccw(c-100,0) -78.29,20.71 ; -74,175 75,175 ; -57,-155 57,-155 ; -57,-106.66 ccw(c-99.99,0.01) -12.81,-75 ; -57,-61.45 ccw(c-100,0) -57,61.45 ; -57,90 -45,90 -45,115 45,115 45,90 57,90 ; -12.83,-75 12.83,-75 ccw(c99.99,0.02) 57.02,-106.65 ; 57,-61.45 cw(c100,0) 57,61.45 ; 78.29,-20.71 cw(c100,0) 78.29,20.71 ; 121.71,-20.71 ccw(c100,0) 121.71,20.71 ; 126,175 275,175 ; 143,-155 257,-155 ; 142.98,-106.66 ccw(c99.99,0.02) 187.17,-75 212.83,-75 ccw(c299.99,0.02) 257.02,-106.65 ; 143,-61.45 ccw(c100,0) 143,61.45 ; 143,90 155,90 155,115 245,115 245,90 257,90 ; 257,-61.45 cw(c300,0) 257,61.45 ; 278.29,-20.71 cw(c300,0) 278.29,20.71 ; 321.71,-20.71 ccw(c300,0) 321.71,20.71 ; 326,175 400,175 ; 343,-155 457,-155 ; 342.98,-106.66 ccw(c299.99,0.02) 387.17,-75 412.83,-75 ccw(c499.99,0.02) 457.02,-106.65 ; 343,-61.45 ccw(c300,0) 343,61.45 ; 343,90 355,90 355,115 445,115 445,90 457,90 ; 457,-61.45 cw(c500,0) 457,61.45 ; 474,175 460,175 ; 478.29,-20.71 cw(c500,0) 478.29,20.71 ; 521.71,-20.71 ccw(c500,0) 521.71,20.71 ; 526,175 640,175 640,-155 543,-155 ; 542.98,-106.66 ccw(c499.99,0.02) 587.17,-75 600,-75 600,115 555,115 555,90 543,90 ; 543,-61.45 ccw(c500,0) 543,61.45 ; -460,175 -400,175 ; -460,175 -460,205 ; -460,205 -460,245 -400,245 -400,205 ; -460,205 -400,205 ; -400,175 -400,205 ; 400,175 460,175 ; 400,175 400,205 ; 400,205 400,245 460,245 460,205 ; 400,205 460,205 ; 460,175 460,205
  text "1" at -615,-145 h77.5
  text "2" at -425,-145 h77.5
  text "3" at -225,-145 h77.5
  text "4" at -25,-145 h77.5
  text "5" at 175,-145 h77.5
  text "6" at 375,-145 h77.5
Mechanical 16:
  lines w6: -543,-155 -457,-155 ; -543,-106.66 ccw(c-500,0) -457,-106.66 ; -543,-61.45 ccw(c-500,0) -457,-61.45 ; -543,61.45 cw(c-500,0) -457,61.45 ; -543,90 -457,90 ; -526,175 -474,175 ; -521.71,-20.71 ccw(c-500,0) -478.29,-20.71 ; -521.71,20.71 cw(c-500,0) -478.29,20.71 ; -343,-155 -257,-155 ; -343,-106.66 ccw(c-300,0) -257,-106.66 ; -343,-61.45 ccw(c-300,0) -257,-61.45 ; -343,61.45 cw(c-300,0) -257,61.45 ; -343,90 -257,90 ; -326,175 -274,175 ; -321.71,-20.71 ccw(c-300,0) -278.29,-20.71 ; -321.71,20.71 cw(c-300,0) -278.29,20.71 ; -143,-155 -57,-155 ; -143,-106.66 ccw(c-100,0) -57,-106.66 ; -143,-61.45 ccw(c-100,0) -57,-61.45 ; -143,61.45 cw(c-100,0) -57,61.45 ; -143,90 -57,90 ; -126,175 -74,175 ; -121.71,-20.71 ccw(c-100,0) -78.29,-20.71 ; -121.71,20.71 cw(c-100,0) -78.29,20.71 ; 57,-155 143,-155 ; 57,-106.66 ccw(c100,0) 143,-106.66 ; 57,-61.45 ccw(c100,0) 143,-61.45 ; 57,61.45 cw(c100,0) 143,61.45 ; 57,90 143,90 ; 74,175 126,175 ; 78.29,-20.71 ccw(c100,0) 121.71,-20.71 ; 78.29,20.71 cw(c100,0) 121.71,20.71 ; 257,-155 343,-155 ; 257,-106.66 ccw(c300,0) 343,-106.66 ; 257,-61.45 ccw(c300,0) 343,-61.45 ; 257,61.45 cw(c300,0) 343,61.45 ; 257,90 343,90 ; 274,175 326,175 ; 278.29,-20.71 ccw(c300,0) 321.71,-20.71 ; 278.29,20.71 cw(c300,0) 321.71,20.71 ; 457,-155 543,-155 ; 457,-106.66 ccw(c500,0) 543,-106.66 ; 457,-61.45 ccw(c500,0) 543,-61.45 ; 457,61.45 cw(c500,0) 543,61.45 ; 457,90 543,90 ; 474,175 526,175 ; 478.29,-20.71 ccw(c500,0) 521.71,-20.71 ; 478.29,20.71 cw(c500,0) 521.71,20.71

## ICV7 [mil]
pads (14):
  oval 82.5x165 hole 55: 1(-600,100) 1A(-600,-100) 2(-400,100) 2A(-400,-100) 3(-200,100) 3A(-200,-100) 4(0,100) 4A(0,-100) 5(200,100) 5A(200,-100) 6(400,100) 6A(400,-100) 7(600,100) 7A(600,-100)
Top Overlay:
  lines w6: -643,-155 -740,-155 -740,175 -626,175 ; -642.98,-106.66 cw(c-599.99,0.02) -687.17,-75 -700,-75 -700,115 -655,115 -655,90 -643,90 ; -643,-61.45 cw(c-600,0) -643,61.45 ; -621.71,-20.71 cw(c-600,0) -621.71,20.71 ; -578.29,-20.71 ccw(c-600,0) -578.29,20.71 ; -574,175 -560,175 ; -557,-155 -443,-155 ; -557,-106.66 ccw(c-599.99,-0.01) -512.82,-75 ; -557,-61.45 ccw(c-600,0) -557,61.45 ; -557,90 -545,90 -545,115 -455,115 -455,90 -443,90 ; -512.83,-75 -487.17,-75 ccw(c-399.99,0.02) -442.98,-106.66 ; -443,-61.45 cw(c-400,0) -443,61.45 ; -426,175 -500,175 ; -421.71,-20.71 cw(c-400,0) -421.71,20.71 ; -378.29,-20.71 ccw(c-400,0) -378.29,20.71 ; -374,175 -225,175 ; -357,-155 -243,-155 ; -357,-106.66 ccw(c-399.99,-0.01) -312.82,-75 ; -357,-61.45 ccw(c-400,0) -357,61.45 ; -357,90 -345,90 -345,115 -255,115 -255,90 -243,90 ; -312.83,-75 -287.17,-75 ccw(c-199.99,0.02) -242.98,-106.66 ; -243,-61.45 cw(c-200,0) -243,61.45 ; -221.71,-20.71 cw(c-200,0) -221.71,20.71 ; -178.29,-20.71 ccw(c-200,0) -178.29,20.71 ; -174,175 -25,175 ; -157,-155 -43,-155 ; -157,-106.66 ccw(c-199.99,-0.01) -112.82,-75 ; -157,-61.45 ccw(c-200,0) -157,61.45 ; -157,90 -145,90 -145,115 -55,115 -55,90 -43,90 ; -112.83,-75 -87.17,-75 ccw(c0.01,0.02) -42.98,-106.66 ; -43,-61.45 cw(c0,0) -43,61.45 ; -21.71,-20.71 cw(c0,0) -21.71,20.71 ; 21.71,-20.71 ccw(c0,0) 21.71,20.71 ; 26,175 175,175 ; 43,-155 157,-155 ; 42.98,-106.66 ccw(c-0.01,0.02) 87.17,-75 112.83,-75 ccw(c199.99,0.02) 157.02,-106.65 ; 43,-61.45 ccw(c0,0) 43,61.45 ; 43,90 55,90 55,115 145,115 145,90 157,90 ; 157,-61.45 cw(c200,0) 157,61.45 ; 178.29,-20.71 cw(c200,0) 178.29,20.71 ; 221.71,-20.71 ccw(c200,0) 221.71,20.71 ; 226,175 375,175 ; 243,-155 357,-155 ; 242.98,-106.66 ccw(c199.99,0.02) 287.17,-75 312.83,-75 ccw(c399.99,0.02) 357.02,-106.65 ; 243,-61.45 ccw(c200,0) 243,61.45 ; 243,90 255,90 255,115 345,115 345,90 357,90 ; 357,-61.45 cw(c400,0) 357,61.45 ; 378.29,-20.71 cw(c400,0) 378.29,20.71 ; 421.71,-20.71 ccw(c400,0) 421.71,20.71 ; 426,175 500,175 ; 443,-155 557,-155 ; 442.98,-106.66 ccw(c399.99,0.02) 487.17,-75 512.83,-75 ccw(c599.99,0.02) 557.02,-106.65 ; 443,-61.45 ccw(c400,0) 443,61.45 ; 443,90 455,90 455,115 545,115 545,90 557,90 ; 557,-61.45 cw(c600,0) 557,61.45 ; 574,175 560,175 ; 578.29,-20.71 cw(c600,0) 578.29,20.71 ; 621.71,-20.71 ccw(c600,0) 621.71,20.71 ; 626,175 740,175 740,-155 643,-155 ; 642.98,-106.66 ccw(c599.99,0.02) 687.17,-75 700,-75 700,115 655,115 655,90 643,90 ; 643,-61.45 ccw(c600,0) 643,61.45 ; -560,175 -500,175 ; -560,175 -560,205 ; -560,205 -560,245 -500,245 -500,205 ; -560,205 -500,205 ; -500,175 -500,205 ; 500,175 560,175 ; 500,175 500,205 ; 500,205 500,245 560,245 560,205 ; 500,205 560,205 ; 560,175 560,205
  text "1" at -715,-145 h77.5
  text "2" at -525,-145 h77.5
  text "3" at -325,-145 h77.5
  text "4" at -125,-145 h77.5
  text "5" at 75,-145 h77.5
  text "6" at 275,-145 h77.5
  text "7" at 475,-145 h77.5
Mechanical 16:
  lines w6: -643,-155 -557,-155 ; -643,-106.66 ccw(c-600,0) -557,-106.66 ; -643,-61.45 ccw(c-600,0) -557,-61.45 ; -643,61.45 cw(c-600,0) -557,61.45 ; -643,90 -557,90 ; -626,175 -574,175 ; -621.71,-20.71 ccw(c-600,0) -578.29,-20.71 ; -621.71,20.71 cw(c-600,0) -578.29,20.71 ; -443,-155 -357,-155 ; -443,-106.66 ccw(c-400,0) -357,-106.66 ; -443,-61.45 ccw(c-400,0) -357,-61.45 ; -443,61.45 cw(c-400,0) -357,61.45 ; -443,90 -357,90 ; -426,175 -374,175 ; -421.71,-20.71 ccw(c-400,0) -378.29,-20.71 ; -421.71,20.71 cw(c-400,0) -378.29,20.71 ; -243,-155 -157,-155 ; -243,-106.66 ccw(c-200,0) -157,-106.66 ; -243,-61.45 ccw(c-200,0) -157,-61.45 ; -243,61.45 cw(c-200,0) -157,61.45 ; -243,90 -157,90 ; -226,175 -174,175 ; -221.71,-20.71 ccw(c-200,0) -178.29,-20.71 ; -221.71,20.71 cw(c-200,0) -178.29,20.71 ; -43,-155 43,-155 ; -43,-106.66 ccw(c0,0) 43,-106.66 ; -43,-61.45 ccw(c0,0) 43,-61.45 ; -43,61.45 cw(c0,0) 43,61.45 ; -43,90 43,90 ; -26,175 26,175 ; -21.71,-20.71 ccw(c0,0) 21.71,-20.71 ; -21.71,20.71 cw(c0,0) 21.71,20.71 ; 157,-155 243,-155 ; 157,-106.66 ccw(c200,0) 243,-106.66 ; 157,-61.45 ccw(c200,0) 243,-61.45 ; 157,61.45 cw(c200,0) 243,61.45 ; 157,90 243,90 ; 174,175 226,175 ; 178.29,-20.71 ccw(c200,0) 221.71,-20.71 ; 178.29,20.71 cw(c200,0) 221.71,20.71 ; 357,-155 443,-155 ; 357,-106.66 ccw(c400,0) 443,-106.66 ; 357,-61.45 ccw(c400,0) 443,-61.45 ; 357,61.45 cw(c400,0) 443,61.45 ; 357,90 443,90 ; 374,175 426,175 ; 378.29,-20.71 ccw(c400,0) 421.71,-20.71 ; 378.29,20.71 cw(c400,0) 421.71,20.71 ; 557,-155 643,-155 ; 557,-106.66 ccw(c600,0) 643,-106.66 ; 557,-61.45 ccw(c600,0) 643,-61.45 ; 557,61.45 cw(c600,0) 643,61.45 ; 557,90 643,90 ; 574,175 626,175 ; 578.29,-20.71 ccw(c600,0) 621.71,-20.71 ; 578.29,20.71 cw(c600,0) 621.71,20.71

## ICV8 [mil]
pads (16):
  oval 82.5x165 hole 55: 1(-700,100) 1A(-700,-100) 2(-500,100) 2A(-500,-100) 3(-300,100) 3A(-300,-100) 4(-100,100) 4A(-100,-100) 5(100,100) 5A(100,-100) 6(300,100) 6A(300,-100) 7(500,100) 7A(500,-100) 8(700,100) 8A(700,-100)
Top Overlay:
  lines w6: -743,-155 -840,-155 -840,175 -726,175 ; -742.98,-106.66 cw(c-699.99,0.02) -787.17,-75 -800,-75 -800,115 -755,115 -755,90 -743,90 ; -743,-61.45 cw(c-700,0) -743,61.45 ; -721.71,-20.71 cw(c-700,0) -721.71,20.71 ; -678.29,-20.71 ccw(c-700,0) -678.29,20.71 ; -674,175 -660,175 ; -657,-155 -543,-155 ; -657,-106.66 ccw(c-699.99,-0.01) -612.82,-75 ; -657,-61.45 ccw(c-700,0) -657,61.45 ; -657,90 -645,90 -645,115 -555,115 -555,90 -543,90 ; -612.83,-75 -587.17,-75 ccw(c-499.99,0.02) -542.98,-106.66 ; -543,-61.45 cw(c-500,0) -543,61.45 ; -526,175 -600,175 ; -521.71,-20.71 cw(c-500,0) -521.71,20.71 ; -478.29,-20.71 ccw(c-500,0) -478.29,20.71 ; -474,175 -325,175 ; -457,-155 -343,-155 ; -457,-106.66 ccw(c-499.99,-0.01) -412.82,-75 ; -457,-61.45 ccw(c-500,0) -457,61.45 ; -457,90 -445,90 -445,115 -355,115 -355,90 -343,90 ; -412.83,-75 -387.17,-75 ccw(c-299.99,0.02) -342.98,-106.66 ; -343,-61.45 cw(c-300,0) -343,61.45 ; -321.71,-20.71 cw(c-300,0) -321.71,20.71 ; -278.29,-20.71 ccw(c-300,0) -278.29,20.71 ; -274,175 -125,175 ; -257,-155 -143,-155 ; -257,-106.66 ccw(c-299.99,-0.01) -212.82,-75 ; -257,-61.45 ccw(c-300,0) -257,61.45 ; -257,90 -245,90 -245,115 -155,115 -155,90 -143,90 ; -212.83,-75 -187.17,-75 ccw(c-99.99,0.02) -142.98,-106.66 ; -143,-61.45 cw(c-100,0) -143,61.45 ; -121.71,-20.71 cw(c-100,0) -121.71,20.71 ; -78.29,-20.71 ccw(c-100,0) -78.29,20.71 ; -74,175 75,175 ; -57,-155 57,-155 ; -57,-106.66 ccw(c-99.99,0.01) -12.81,-75 ; -57,-61.45 ccw(c-100,0) -57,61.45 ; -57,90 -45,90 -45,115 45,115 45,90 57,90 ; -12.83,-75 12.83,-75 ccw(c99.99,0.02) 57.02,-106.65 ; 57,-61.45 cw(c100,0) 57,61.45 ; 78.29,-20.71 cw(c100,0) 78.29,20.71 ; 121.71,-20.71 ccw(c100,0) 121.71,20.71 ; 126,175 275,175 ; 143,-155 257,-155 ; 142.98,-106.66 ccw(c99.99,0.02) 187.17,-75 212.83,-75 ccw(c299.99,0.02) 257.02,-106.65 ; 143,-61.45 ccw(c100,0) 143,61.45 ; 143,90 155,90 155,115 245,115 245,90 257,90 ; 257,-61.45 cw(c300,0) 257,61.45 ; 278.29,-20.71 cw(c300,0) 278.29,20.71 ; 321.71,-20.71 ccw(c300,0) 321.71,20.71 ; 326,175 475,175 ; 343,-155 457,-155 ; 342.98,-106.66 ccw(c299.99,0.02) 387.17,-75 412.83,-75 ccw(c499.99,0.02) 457.02,-106.65 ; 343,-61.45 ccw(c300,0) 343,61.45 ; 343,90 355,90 355,115 445,115 445,90 457,90 ; 457,-61.45 cw(c500,0) 457,61.45 ; 478.29,-20.71 cw(c500,0) 478.29,20.71 ; 521.71,-20.71 ccw(c500,0) 521.71,20.71 ; 526,175 600,175 ; 543,-155 657,-155 ; 542.98,-106.66 ccw(c499.99,0.02) 587.17,-75 612.83,-75 ccw(c699.99,0.02) 657.02,-106.65 ; 543,-61.45 ccw(c500,0) 543,61.45 ; 543,90 555,90 555,115 645,115 645,90 657,90 ; 657,-61.45 cw(c700,0) 657,61.45 ; 674,175 660,175 ; 678.29,-20.71 cw(c700,0) 678.29,20.71 ; 721.71,-20.71 ccw(c700,0) 721.71,20.71 ; 726,175 840,175 840,-155 743,-155 ; 742.98,-106.66 ccw(c699.99,0.02) 787.17,-75 800,-75 800,115 755,115 755,90 743,90 ; 743,-61.45 ccw(c700,0) 743,61.45 ; -660,175 -600,175 ; -660,175 -660,205 ; -660,205 -660,245 -600,245 -600,205 ; -660,205 -600,205 ; -600,175 -600,205 ; 600,175 660,175 ; 600,175 600,205 ; 600,205 600,245 660,245 660,205 ; 600,205 660,205 ; 660,175 660,205
  text "1" at -815,-145 h77.5
  text "2" at -625,-145 h77.5
  text "3" at -425,-145 h77.5
  text "4" at -225,-145 h77.5
  text "5" at -25,-145 h77.5
  text "6" at 175,-145 h77.5
  text "7" at 375,-145 h77.5
  text "8" at 575,-145 h77.5
Mechanical 16:
  lines w6: -743,-155 -657,-155 ; -743,-106.66 ccw(c-700,0) -657,-106.66 ; -743,-61.45 ccw(c-700,0) -657,-61.45 ; -743,61.45 cw(c-700,0) -657,61.45 ; -743,90 -657,90 ; -726,175 -674,175 ; -721.71,-20.71 ccw(c-700,0) -678.29,-20.71 ; -721.71,20.71 cw(c-700,0) -678.29,20.71 ; -543,-155 -457,-155 ; -543,-106.66 ccw(c-500,0) -457,-106.66 ; -543,-61.45 ccw(c-500,0) -457,-61.45 ; -543,61.45 cw(c-500,0) -457,61.45 ; -543,90 -457,90 ; -526,175 -474,175 ; -521.71,-20.71 ccw(c-500,0) -478.29,-20.71 ; -521.71,20.71 cw(c-500,0) -478.29,20.71 ; -343,-155 -257,-155 ; -343,-106.66 ccw(c-300,0) -257,-106.66 ; -343,-61.45 ccw(c-300,0) -257,-61.45 ; -343,61.45 cw(c-300,0) -257,61.45 ; -343,90 -257,90 ; -326,175 -274,175 ; -321.71,-20.71 ccw(c-300,0) -278.29,-20.71 ; -321.71,20.71 cw(c-300,0) -278.29,20.71 ; -143,-155 -57,-155 ; -143,-106.66 ccw(c-100,0) -57,-106.66 ; -143,-61.45 ccw(c-100,0) -57,-61.45 ; -143,61.45 cw(c-100,0) -57,61.45 ; -143,90 -57,90 ; -126,175 -74,175 ; -121.71,-20.71 ccw(c-100,0) -78.29,-20.71 ; -121.71,20.71 cw(c-100,0) -78.29,20.71 ; 57,-155 143,-155 ; 57,-106.66 ccw(c100,0) 143,-106.66 ; 57,-61.45 ccw(c100,0) 143,-61.45 ; 57,61.45 cw(c100,0) 143,61.45 ; 57,90 143,90 ; 74,175 126,175 ; 78.29,-20.71 ccw(c100,0) 121.71,-20.71 ; 78.29,20.71 cw(c100,0) 121.71,20.71 ; 257,-155 343,-155 ; 257,-106.66 ccw(c300,0) 343,-106.66 ; 257,-61.45 ccw(c300,0) 343,-61.45 ; 257,61.45 cw(c300,0) 343,61.45 ; 257,90 343,90 ; 274,175 326,175 ; 278.29,-20.71 ccw(c300,0) 321.71,-20.71 ; 278.29,20.71 cw(c300,0) 321.71,20.71 ; 457,-155 543,-155 ; 457,-106.66 ccw(c500,0) 543,-106.66 ; 457,-61.45 ccw(c500,0) 543,-61.45 ; 457,61.45 cw(c500,0) 543,61.45 ; 457,90 543,90 ; 474,175 526,175 ; 478.29,-20.71 ccw(c500,0) 521.71,-20.71 ; 478.29,20.71 cw(c500,0) 521.71,20.71 ; 657,-155 743,-155 ; 657,-106.66 ccw(c700,0) 743,-106.66 ; 657,-61.45 ccw(c700,0) 743,-61.45 ; 657,61.45 cw(c700,0) 743,61.45 ; 657,90 743,90 ; 674,175 726,175 ; 678.29,-20.71 ccw(c700,0) 721.71,-20.71 ; 678.29,20.71 cw(c700,0) 721.71,20.71

## ICV9 [mil]
pads (18):
  oval 82.5x165 hole 55: 1(-800,100) 1A(-800,-100) 2(-600,100) 2A(-600,-100) 3(-400,100) 3A(-400,-100) 4(-200,100) 4A(-200,-100) 5(0,100) 5A(0,-100) 6(200,100) 6A(200,-100) 7(400,100) 7A(400,-100) 8(600,100) 8A(600,-100) 9(800,100) 9A(800,-100)
Top Overlay:
  lines w6: -843,-155 -940,-155 -940,175 -826,175 ; -842.98,-106.66 cw(c-799.99,0.02) -887.17,-75 -900,-75 -900,115 -855,115 -855,90 -843,90 ; -843,-61.45 cw(c-800,0) -843,61.45 ; -821.71,-20.71 cw(c-800,0) -821.71,20.71 ; -778.29,-20.71 ccw(c-800,0) -778.29,20.71 ; -774,175 -760,175 ; -757,-155 -643,-155 ; -757,-106.66 ccw(c-799.99,-0.01) -712.82,-75 ; -757,-61.45 ccw(c-800,0) -757,61.45 ; -757,90 -745,90 -745,115 -655,115 -655,90 -643,90 ; -712.83,-75 -687.17,-75 ccw(c-599.99,0.02) -642.98,-106.66 ; -643,-61.45 cw(c-600,0) -643,61.45 ; -626,175 -700,175 ; -621.71,-20.71 cw(c-600,0) -621.71,20.71 ; -578.29,-20.71 ccw(c-600,0) -578.29,20.71 ; -574,175 -425,175 ; -557,-155 -443,-155 ; -557,-106.66 ccw(c-599.99,-0.01) -512.82,-75 ; -557,-61.45 ccw(c-600,0) -557,61.45 ; -557,90 -545,90 -545,115 -455,115 -455,90 -443,90 ; -512.83,-75 -487.17,-75 ccw(c-399.99,0.02) -442.98,-106.66 ; -443,-61.45 cw(c-400,0) -443,61.45 ; -421.71,-20.71 cw(c-400,0) -421.71,20.71 ; -378.29,-20.71 ccw(c-400,0) -378.29,20.71 ; -374,175 -225,175 ; -357,-155 -243,-155 ; -357,-106.66 ccw(c-399.99,-0.01) -312.82,-75 ; -357,-61.45 ccw(c-400,0) -357,61.45 ; -357,90 -345,90 -345,115 -255,115 -255,90 -243,90 ; -312.83,-75 -287.17,-75 ccw(c-199.99,0.02) -242.98,-106.66 ; -243,-61.45 cw(c-200,0) -243,61.45 ; -221.71,-20.71 cw(c-200,0) -221.71,20.71 ; -178.29,-20.71 ccw(c-200,0) -178.29,20.71 ; -174,175 -25,175 ; -157,-155 -43,-155 ; -157,-106.66 ccw(c-199.99,-0.01) -112.82,-75 ; -157,-61.45 ccw(c-200,0) -157,61.45 ; -157,90 -145,90 -145,115 -55,115 -55,90 -43,90 ; -112.83,-75 -87.17,-75 ccw(c0.01,0.02) -42.98,-106.66 ; -43,-61.45 cw(c0,0) -43,61.45 ; -21.71,-20.71 cw(c0,0) -21.71,20.71 ; 21.71,-20.71 ccw(c0,0) 21.71,20.71 ; 26,175 175,175 ; 43,-155 157,-155 ; 42.98,-106.66 ccw(c-0.01,0.02) 87.17,-75 112.83,-75 ccw(c199.99,0.02) 157.02,-106.65 ; 43,-61.45 ccw(c0,0) 43,61.45 ; 43,90 55,90 55,115 145,115 145,90 157,90 ; 157,-61.45 cw(c200,0) 157,61.45 ; 178.29,-20.71 cw(c200,0) 178.29,20.71 ; 221.71,-20.71 ccw(c200,0) 221.71,20.71 ; 226,175 375,175 ; 243,-155 357,-155 ; 242.98,-106.66 ccw(c199.99,0.02) 287.17,-75 312.83,-75 ccw(c399.99,0.02) 357.02,-106.65 ; 243,-61.45 ccw(c200,0) 243,61.45 ; 243,90 255,90 255,115 345,115 345,90 357,90 ; 357,-61.45 cw(c400,0) 357,61.45 ; 378.29,-20.71 cw(c400,0) 378.29,20.71 ; 421.71,-20.71 ccw(c400,0) 421.71,20.71 ; 426,175 575,175 ; 443,-155 557,-155 ; 442.98,-106.66 ccw(c399.99,0.02) 487.17,-75 512.83,-75 ccw(c599.99,0.02) 557.02,-106.65 ; 443,-61.45 ccw(c400,0) 443,61.45 ; 443,90 455,90 455,115 545,115 545,90 557,90 ; 557,-61.45 cw(c600,0) 557,61.45 ; 578.29,-20.71 cw(c600,0) 578.29,20.71 ; 621.71,-20.71 ccw(c600,0) 621.71,20.71 ; 626,175 700,175 ; 643,-155 757,-155 ; 642.98,-106.66 ccw(c599.99,0.02) 687.17,-75 712.83,-75 ccw(c799.99,0.02) 757.02,-106.65 ; 643,-61.45 ccw(c600,0) 643,61.45 ; 643,90 655,90 655,115 745,115 745,90 757,90 ; 757,-61.45 cw(c800,0) 757,61.45 ; 774,175 760,175 ; 778.29,-20.71 cw(c800,0) 778.29,20.71 ; 821.71,-20.71 ccw(c800,0) 821.71,20.71 ; 826,175 940,175 940,-155 843,-155 ; 842.98,-106.66 ccw(c799.99,0.02) 887.17,-75 900,-75 900,115 855,115 855,90 843,90 ; 843,-61.45 ccw(c800,0) 843,61.45 ; -760,175 -700,175 ; -760,175 -760,205 ; -760,205 -760,245 -700,245 -700,205 ; -760,205 -700,205 ; -700,175 -700,205 ; 700,175 760,175 ; 700,175 700,205 ; 700,205 700,245 760,245 760,205 ; 700,205 760,205 ; 760,175 760,205
  text "1" at -915,-145 h77.5
  text "2" at -725,-145 h77.5
  text "3" at -525,-145 h77.5
  text "4" at -325,-145 h77.5
  text "5" at -125,-145 h77.5
  text "6" at 75,-145 h77.5
  text "7" at 275,-145 h77.5
  text "8" at 475,-145 h77.5
  text "9" at 675,-145 h77.5
Mechanical 16:
  lines w6: -843,-155 -757,-155 ; -843,-106.66 ccw(c-800,0) -757,-106.66 ; -843,-61.45 ccw(c-800,0) -757,-61.45 ; -843,61.45 cw(c-800,0) -757,61.45 ; -843,90 -757,90 ; -826,175 -774,175 ; -821.71,-20.71 ccw(c-800,0) -778.29,-20.71 ; -821.71,20.71 cw(c-800,0) -778.29,20.71 ; -643,-155 -557,-155 ; -643,-106.66 ccw(c-600,0) -557,-106.66 ; -643,-61.45 ccw(c-600,0) -557,-61.45 ; -643,61.45 cw(c-600,0) -557,61.45 ; -643,90 -557,90 ; -626,175 -574,175 ; -621.71,-20.71 ccw(c-600,0) -578.29,-20.71 ; -621.71,20.71 cw(c-600,0) -578.29,20.71 ; -443,-155 -357,-155 ; -443,-106.66 ccw(c-400,0) -357,-106.66 ; -443,-61.45 ccw(c-400,0) -357,-61.45 ; -443,61.45 cw(c-400,0) -357,61.45 ; -443,90 -357,90 ; -426,175 -374,175 ; -421.71,-20.71 ccw(c-400,0) -378.29,-20.71 ; -421.71,20.71 cw(c-400,0) -378.29,20.71 ; -243,-155 -157,-155 ; -243,-106.66 ccw(c-200,0) -157,-106.66 ; -243,-61.45 ccw(c-200,0) -157,-61.45 ; -243,61.45 cw(c-200,0) -157,61.45 ; -243,90 -157,90 ; -226,175 -174,175 ; -221.71,-20.71 ccw(c-200,0) -178.29,-20.71 ; -221.71,20.71 cw(c-200,0) -178.29,20.71 ; -43,-155 43,-155 ; -43,-106.66 ccw(c0,0) 43,-106.66 ; -43,-61.45 ccw(c0,0) 43,-61.45 ; -43,61.45 cw(c0,0) 43,61.45 ; -43,90 43,90 ; -26,175 26,175 ; -21.71,-20.71 ccw(c0,0) 21.71,-20.71 ; -21.71,20.71 cw(c0,0) 21.71,20.71 ; 157,-155 243,-155 ; 157,-106.66 ccw(c200,0) 243,-106.66 ; 157,-61.45 ccw(c200,0) 243,-61.45 ; 157,61.45 cw(c200,0) 243,61.45 ; 157,90 243,90 ; 174,175 226,175 ; 178.29,-20.71 ccw(c200,0) 221.71,-20.71 ; 178.29,20.71 cw(c200,0) 221.71,20.71 ; 357,-155 443,-155 ; 357,-106.66 ccw(c400,0) 443,-106.66 ; 357,-61.45 ccw(c400,0) 443,-61.45 ; 357,61.45 cw(c400,0) 443,61.45 ; 357,90 443,90 ; 374,175 426,175 ; 378.29,-20.71 ccw(c400,0) 421.71,-20.71 ; 378.29,20.71 cw(c400,0) 421.71,20.71 ; 557,-155 643,-155 ; 557,-106.66 ccw(c600,0) 643,-106.66 ; 557,-61.45 ccw(c600,0) 643,-61.45 ; 557,61.45 cw(c600,0) 643,61.45 ; 557,90 643,90 ; 574,175 626,175 ; 578.29,-20.71 ccw(c600,0) 621.71,-20.71 ; 578.29,20.71 cw(c600,0) 621.71,20.71 ; 757,-155 843,-155 ; 757,-106.66 ccw(c800,0) 843,-106.66 ; 757,-61.45 ccw(c800,0) 843,-61.45 ; 757,61.45 cw(c800,0) 843,61.45 ; 757,90 843,90 ; 774,175 826,175 ; 778.29,-20.71 ccw(c800,0) 821.71,-20.71 ; 778.29,20.71 cw(c800,0) 821.71,20.71